# Altium schematic symbol library IMU3000.SchLib: 1 symbol
Pins are listed as number, name and electrical type; pins without a type are passive.

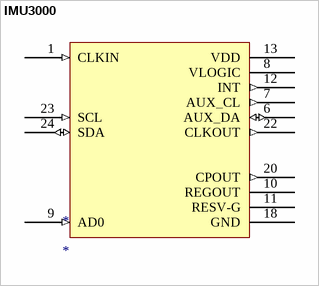
[diagram p0: symbol IMU3000]

## IMU3000
designator *
footprint IMU3000 - Commercial
footprint IMU3000 - ECESHOP
pins: 1 CLKIN (in), 6 AUX_DA (io), 7 AUX_CL (out), 8 VLOGIC, 9 AD0 (in), 10 REGOUT, 11 RESV-G, 12 INT (out), 13 VDD (power), 18 GND, 20 CPOUT (out), 22 CLKOUT (out), 23 SCL (in), 24 SDA (io)